# Altium integrated library lib-Crystals.IntLib: 3 symbols
Pins are listed as number, name and electrical type; pins without a type are passive.

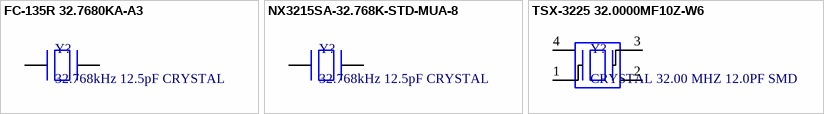
[diagram p0: symbols FC-135R 32.7680KA-A3 to TSX-3225 32.0000MF10Z-W6]

## FC-135R 32.7680KA-A3
designator Y?, comment 32.768kHz 12.5pF CRYSTAL
Epson RTC 12.5pF Crystal SMD; Manufacturer Part Number 1: FC-135R 32.7680KA-A3; Manufacturer 1: EPSON; Supplier 1: Digikey; Supplier Part Number 1: SER4071CT-ND
footprint 0.126" L x 0.061" W (2 PAD) (0.126" x 0.061" Crystal)
pins: 1, 2

## NX3215SA-32.768K-STD-MUA-8
designator Y?, comment 32.768kHz 12.5pF CRYSTAL
NDK RTC 12.5pF Crystal SMD; Manufacturer Part Number 1: NX3215SA-32.768K-STD-MUA-8; Manufacturer 1: NDK; Supplier 1: Digikey; Supplier Part Number 1: 644-1156-1-ND
footprint 0.126" L x 0.061" W (2 PAD) (0.126" x 0.061" Crystal)
pins: 1, 2

## TSX-3225 32.0000MF10Z-W6
designator Y?, comment CRYSTAL 32.00 MHZ 12.0PF SMD
32MHz ±10ppm Crystal 12pF 40 Ohms 4-SMD, No Lead; Manufacturer 1: EPSON; Manfuacturer Part Number 1: TSX-3225 32.0000MF10Z-W6; Supplier 1: Digikey; Supplier Part Number 1: SER4378CT-ND; ComponentLink1Description: Datasheet; ComponentLink1URL: https://support.epson.biz/td/api/doc_check.php?dl=brief_TSX-3225&lang=en
footprint 0.126" L x 0.098" W (4 PAD) (0.126" L x 0.098" W Crystal)
pins: 1, 2, 3, 4